# Altium footprint library SOARFootprints.PcbLib: 56 footprints (part 1 of 4)
Each footprint in its own frame and in the unit in brackets; x right, y up, seen from the top. Pads: shape width x height; smd on the part's side, far side on the other; paste and mask are expansions set on the pad; w line width, h text height; cw(c..) or ccw(c..) is an arc to the next point about the centre after c.
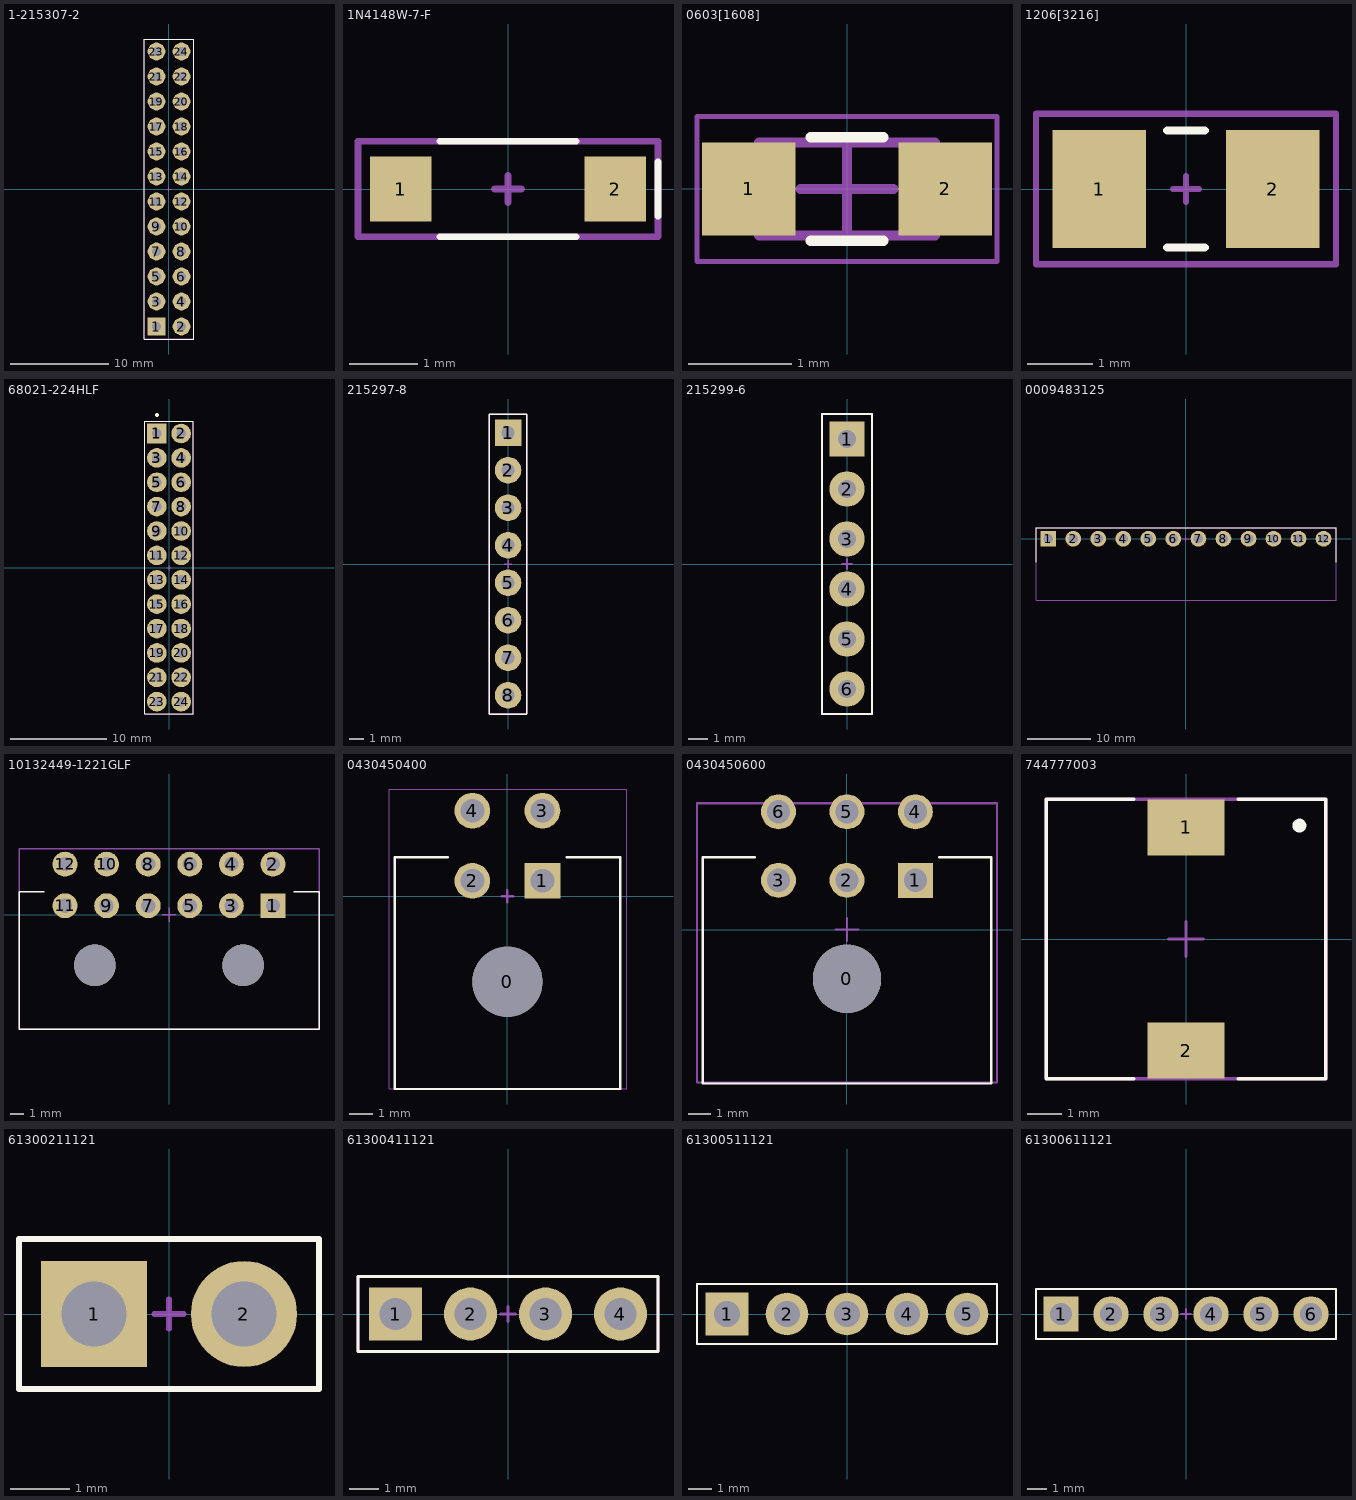
[diagram p0: the footprints below, top view; thin cyan lines are the x and y axes]

## 1-215307-2 [mm]
pads (24):
  rect 1.8x1.8 hole 0.9: 1(-1.27,-13.97)
  round 1.8 hole 0.9: 2(1.27,-13.97) 3(-1.27,-11.43) 4(1.27,-11.43) 5(-1.27,-8.89) 6(1.27,-8.89) 7(-1.27,-6.35) 8(1.27,-6.35) 9(-1.27,-3.81) 10(1.27,-3.81) 11(-1.27,-1.27) 12(1.27,-1.27) 13(-1.27,1.27) 14(1.27,1.27) 15(-1.27,3.81) 16(1.27,3.81) 17(-1.27,6.35) 18(1.27,6.35) 19(-1.27,8.89) 20(1.27,8.89) 21(-1.27,11.43) 22(1.27,11.43) 23(-1.27,13.97) 24(1.27,13.97)
Top Overlay:
  lines w0.1: -2.53,15.24 -2.53,-15.24 2.53,-15.24 2.53,15.24
  lines w0.127: -2.53,15.24 2.53,15.24 ; -2.53,15.24 2.53,15.24 ; -2.53,15.24 -2.53,-15.24 2.53,-15.24 2.53,15.24
Top Component Outline:
  lines w0.1: -0.25,0 0.25,0 ; 0,-0.25 0,0.25 ; -2.53,-15.24 2.53,-15.24 2.53,15.24 -2.53,15.24 -2.53,-15.24
3D body: height 7, standoff 0, extent -2.53,-15.24 2.53,15.24

## 1N4148W-7-F [mm] "SOD123"
pads (2):
  rect 0.9x0.95 smd mask+0.05: 1(-1.575,0) 2(1.575,0)
Top Overlay:
  lines w0.1: -1,-0.7 1,-0.7 ; -1,0.7 1,0.7 ; 2.2,-0.4 2.2,0.4
Top Component Outline:
  lines w0.1: -0.2,0 0,0 0.2,0 ; 0,-0.2 0,0.2 ; -2.2,-0.7 -2.2,0.7 2.2,0.7 2.2,-0.7 -2.2,-0.7
3D body "SOD123.step": height 0.81, standoff 0, extent -1.925,-0.675 1.925,0.675

## 0603[1608] [mm]
pads (2):
  rect 0.9x0.9 smd mask+0.05: 1(-0.95,0) 2(0.95,0)
Top Overlay:
  lines w0.1: -0.35,-0.5 0.35,-0.5 ; -0.35,0.5 0.35,0.5
Top Component Outline:
  lines w0.05: -1.45,-0.7 -1.45,0.7 1.45,0.7 1.45,-0.7 -1.45,-0.7
  lines w0.1: -0.45,0 0.45,0 ; 0,-0.45 0,0.45 ; -0.85,-0.45 0.85,-0.45 0.85,0.45 -0.85,0.45 -0.85,-0.45
3D body "RESC1608X06N.step": height 0.55, standoff 0, extent -0.85,-0.45 0.85,0.45

## 1206[3216] [mm] "1206 Ceramic Capacitor"
height 1.8
pads (2):
  rect 1.44x1.82 smd: 1(-1.336,0) 2(1.336,0)
Top Overlay:
  lines w0.127: -0.29,-0.9 0.29,-0.9 ; -0.29,0.9 0.29,0.9
Top Component Outline:
  lines w0.1: -0.2,0 0.2,0 ; 0,-0.2 0,0.2 ; -2.308,-1.158 2.308,-1.158 2.308,1.158 -2.308,1.158 -2.308,-1.158
3D body "CGA5L3X7R2E333K160AA--3DModel-STEP-46669.STEP": height 1.6, standoff 0, extent -1.6,-0.9 1.6,0.9

## 68021-224HLF [mm]
pads (24):
  rect 2.04x2.04 hole 1.02: 1(-1.27,13.97)
  round 2.04 hole 1.02: 2(1.27,13.97) 3(-1.27,11.43) 4(1.27,11.43) 5(-1.27,8.89) 6(1.27,8.89) 7(-1.27,6.35) 8(1.27,6.35) 9(-1.27,3.81) 10(1.27,3.81) 11(-1.27,1.27) 12(1.27,1.27) 13(-1.27,-1.27) 14(1.27,-1.27) 15(-1.27,-3.81) 16(1.27,-3.81) 17(-1.27,-6.35) 18(1.27,-6.35) 19(-1.27,-8.89) 20(1.27,-8.89) 21(-1.27,-11.43) 22(1.27,-11.43) 23(-1.27,-13.97) 24(1.27,-13.97)
Top Overlay:
  circle w0.2: c-1.25,15.9 r0.1
  lines w0.1: -2.54,-15.24 2.54,-15.24 2.54,15.24 -2.54,15.24 -2.54,-15.24
Top Component Outline:
  lines w0.1: -0.25,0 0.25,0 ; 0,-0.25 0,0.25 ; -2.55,-15.25 2.55,-15.25 2.55,15.25 -2.55,15.25 -2.55,-15.25
3D body: height 6.6, standoff 0, extent -2.415,-15.24 2.415,15.24

## 215297-8 [mm]
pads (8):
  rect 1.8x1.8 hole 0.9: 1(0,8.89)
  round 1.8 hole 0.9: 2(0,6.35) 3(0,3.81) 4(0,1.27) 5(0,-1.27) 6(0,-3.81) 7(0,-6.35) 8(0,-8.89)
Top Overlay:
  lines w0.1: 1.25,-10.16 -1.27,-10.16 -1.27,10.15 1.26,10.15 1.26,0 1.26,-10.15
Top Component Outline:
  lines w0.1: -0.25,0 0.25,0 ; 0,-0.25 0,0.25 ; -1.26,-10.16 -1.26,10.16 1.26,10.16 1.26,-10.16 -1.26,-10.16
3D body "c-215297-8-d-3d.stp": height 7.01, standoff -2.99, extent -1.26,-10.16 1.26,10.16

## 215299-6 [mm]
pads (6):
  rect 1.8x1.8 hole 0.9: 1(0,6.35)
  round 1.8 hole 0.9: 2(0,3.81) 3(0,1.27) 4(0,-1.27) 5(0,-3.81) 6(0,-6.35)
Top Overlay:
  lines w0.1: -1.26,-7.62 1.26,-7.62 1.26,0 1.26,7.62 -1.26,7.62 -1.26,-7.62
Top Component Outline:
  lines w0.1: -0.25,0 0.25,0 ; 0,-0.25 0,0.25 ; -1.26,-7.62 1.26,-7.62 1.26,0 1.26,7.62 -1.26,7.62 -1.26,-7.62
3D body "c-215299-6-e-3d.stp": height 8.51, standoff -2.99, extent -1.26,-7.62 1.26,7.62

## 0009483125 [mm] "CONN RCPT 12P 0.156 GOLD EDGE MT"
height 7.82
pads (12):
  rect 2.5x2.5 hole 1.52: 1(-21.78,0)
  round 2.5 hole 1.52: 2(-17.82,0) 3(-13.86,0) 4(-9.9,0) 5(-5.94,0) 6(-1.98,0) 7(1.98,0) 8(5.94,0) 9(9.9,0) 10(13.86,0) 11(17.82,0) 12(21.78,0)
Top Overlay:
  lines w0.1: -23.71,-3.75 -23.71,1.7 23.749,1.7 23.749,-3.75
Top Component Outline:
  lines w0.1: -0.508,0 0.508,0 ; 0,-0.508 0,0.508 ; -23.71,-9.7 -23.71,1.7 23.749,1.7 23.749,-9.7 -23.71,-9.7
3D body "009483125.stp": height 7.89, standoff -4, extent -23.71,-9.7 23.737,1.7

## 10132449-1221GLF [mm] "CONN HEADER R/A 12POS 3MM"
height 7.35
pads (14):
  rect 1.8x1.8 hole 1.02 mask+0.05: 1(7.5,0.65)
  round 1.8 hole 1.02 mask+0.05: 2(7.5,3.65) 3(4.5,0.65) 4(4.5,3.65) 5(1.5,0.65) 6(1.5,3.65) 7(-1.5,0.65) 8(-1.5,3.65) 9(-4.5,0.65) 10(-4.5,3.65) 11(-7.5,0.65) 12(-7.5,3.65)
  round 3 hole 3 mask+0.05: ""(-5.35,-3.65) ""(5.35,-3.65)
Top Overlay:
  lines w0.1: -9,1.65 -9,1.65 ; -9,1.65 -10.825,1.65 -10.825,-8.25 10.825,-8.25 10.825,1.65 9,1.65 ; 9,1.65 9,1.65
Top Component Outline:
  lines w0.1: -0.5,0 0.5,0 ; 0,-0.5 0,0.5 ; -10.825,-8.25 10.825,-8.25 10.825,4.75 -10.825,4.75 -10.825,-8.25
3D body "10132449-12xxxlf.stp": height 8.78, standoff -3.18, extent -10.825,-8.25 10.825,3.971

## 0430450400 [mm] "4-Pin Molex 3.00mm Pitch"
height 8.77
pads (5):
  round 3 hole 3 unplated mask+0.05: 0(0,-3.66)
  rect 1.53x1.53 hole 1.02 mask+0.05: 1(1.5,0.66)
  round 1.53 hole 1.02 mask+0.05: 2(-1.5,0.66) 3(1.5,3.66) 4(-1.5,3.66)
Top Overlay:
  lines w0.1: -2.54,1.675 -4.825,1.675 -4.825,-8.25 4.825,-8.25 4.825,1.675 2.54,1.675
Top Component Outline:
  lines w0.05: -5.05,-8.25 -5.05,4.59 5.1,4.59 5.1,-8.25 -5.05,-8.25
  lines w0.1: -0.25,0 0.25,0 ; 0,-0.25 0,0.25
3D body "430450400.stp": height 8.83, standoff -3.12, extent -5.05,-8.25 5.1,3.99

## 0430450600 [mm] "6-Pin Molex 3.00mm Pitch"
height 8.77
pads (7):
  round 3 hole 3 unplated mask+0.05: 0(0,-2.16)
  rect 1.53x1.53 hole 1.02 mask+0.05: 1(3,2.16)
  round 1.53 hole 1.02 mask+0.05: 2(0,2.16) 3(-3,2.16) 4(3,5.16) 5(0,5.16) 6(-3,5.16)
Top Overlay:
  lines w0.1: -4.04,3.175 -6.325,3.175 -6.325,-6.75 6.325,-6.75 6.325,3.175 4.04,3.175
Top Component Outline:
  lines w0.1: -0.5,0 0.5,0 ; 0,-0.5 0,0.5 ; -6.575,-6.7 -6.575,5.54 6.575,5.54 6.575,-6.7 -6.575,-6.7
3D body "430450600.stp": height 8.28, standoff -3.67, extent -6.575,-6.7 6.575,5.54

## 744777003 [mm] "SMT SHIELDED POWER INDUCTOR SIZE"
height 4.5
pads (2):
  rect 2.2x1.6 smd mask+0.05: 1(0,3.2) 2(0,-3.2)
Top Overlay:
  circle w0.2: c3.25,3.25 r0.1
  lines w0.1: -1.5,-4 -4,-4 -4,4 -1.5,4 ; 1.5,-4 4,-4 4,4 1.5,4
Top Component Outline:
  lines w0.1: -0.5,0 0.5,0 ; 0,-0.5 0,0.5 ; -4,-4 -4,4 4,4 4,-4 -4,-4
3D body: height 4.5, standoff 0, extent -4,-4 4,4

## 61300211121 [mm] "CONN HEADER VERT 2POS 2.54MM"
height 11.54
pads (2):
  rect 1.8x1.8 hole 1.1 mask+0.05: 1(-1.27,0)
  round 1.8 hole 1.1 mask+0.05: 2(1.27,0)
Top Overlay:
  lines w0.1: -2.54,-1.27 -2.54,1.27 2.54,1.27 2.54,-1.27 -2.54,-1.27
Top Component Outline:
  lines w0.1: -0.25,0 0.25,0 ; 0,-0.25 0,0.25 ; -2.54,-1.27 2.54,-1.27 2.54,1.27 -2.54,1.27 -2.54,-1.27
3D body "61300211121_Download_STP_61300211121_rev1.stp": height 8.57, standoff -2.97, extent -2.54,-1.27 2.54,1.27

## 61300411121 [mm] "CONN HEADER VERT 4POS 2.54MM"
height 11.54
pads (4):
  rect 1.8x1.8 hole 1.1 mask+0.05: 1(-3.81,0)
  round 1.8 hole 1.1 mask+0.05: 2(-1.27,0) 3(1.27,0) 4(3.81,0)
Top Overlay:
  lines w0.1: -5.08,-1.27 -5.08,1.27 5.08,1.27 5.08,-1.27 -5.08,-1.27
Top Component Outline:
  lines w0.1: -0.254,0 0.254,0 ; 0,-0.254 0,0.254 ; -5.08,-1.27 -5.08,1.27 5.08,1.27 5.08,-1.27 -5.08,-1.27
3D body "61300411121_Downlaod_STP_61300411121_rev1.stp": height 8.57, standoff -2.97, extent -5.08,-1.27 5.08,1.27

## 61300511121 [mm] "CONN HEADER VERT 5POS 2.54MM"
height 11.54
pads (5):
  rect 1.8x1.8 hole 1.1 mask+0.05: 1(-5.08,0)
  round 1.8 hole 1.1 mask+0.05: 2(-2.54,0) 3(0,0) 4(2.54,0) 5(5.08,0)
Top Overlay:
  lines w0.1: -6.35,-1.27 -6.35,1.27 6.35,1.27 6.35,-1.27 -6.35,-1.27
Top Component Outline:
  lines w0.1: -0.254,0 0.254,0 ; 0,-0.254 0,0.254 ; -6.35,-1.27 -6.35,1.27 6.35,1.27 6.35,-1.27 -6.35,-1.27
3D body "61300511121_Download_STP_61300511121_rev1.stp": height 8.57, standoff -2.97, extent -6.35,-1.27 6.35,1.27

## 61300611121 [mm] "CONN HEADER VERT 6POS 2.54MM"
height 11.54
pads (6):
  rect 1.8x1.8 hole 1.1 mask+0.05: 1(-6.35,0)
  round 1.8 hole 1.1 mask+0.05: 2(-3.81,0) 3(-1.27,0) 4(1.27,0) 5(3.81,0) 6(6.35,0)
Top Overlay:
  lines w0.1: -7.62,-1.27 -7.62,1.27 7.62,1.27 7.62,-1.27 -7.62,-1.27
Top Component Outline:
  lines w0.1: -0.254,0 0.254,0 ; 0,-0.254 0,0.254 ; -7.62,-1.27 -7.62,1.27 7.62,1.27 7.62,-1.27 -7.62,-1.27
3D body "61300611121_Download_STP_61300611121_rev1.stp": height 8.57, standoff -2.97, extent -7.62,-1.27 7.62,1.27